# Altium footprint library u4.PcbLib: 1 footprints
Each footprint in its own frame and in the unit in brackets; x right, y up, seen from the top. Pads: shape width x height; smd on the part's side, far side on the other; paste and mask are expansions set on the pad; w line width, h text height; cw(c..) or ccw(c..) is an arc to the next point about the centre after c.
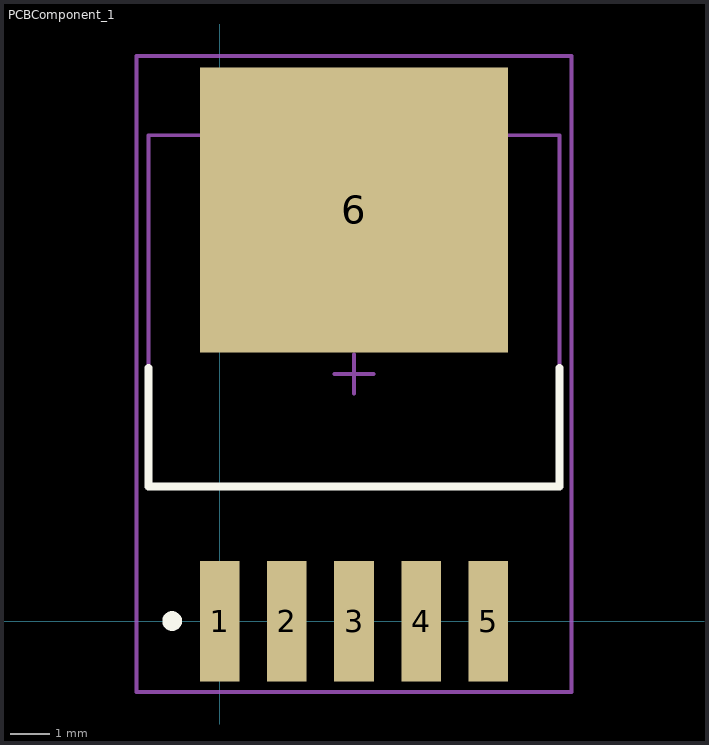
[diagram p0: the footprint, top view; thin cyan lines are the x and y axes]

## PCBComponent_1 [mm]
pads (6):
  rect 1x3.05 smd: 1(0,0) 2(1.7,0) 3(3.4,0) 4(5.1,0) 5(6.8,0)
  rect 7.8x7.2 smd: 6(3.4,10.4)
Top Overlay:
  circle w0.25: c-1.2,0 r0.125
  lines w0.2: -1.8,6.4 -1.8,3.4 8.6,3.4 8.6,6.4
Mechanical 13:
  lines w0.1: -1.8,3.4 8.6,3.4 8.6,12.29 -1.8,12.29 -1.8,3.4
Mechanical 15:
  lines w0.1: 2.9,6.25 3.9,6.25 ; 3.4,5.75 3.4,6.75 ; -2.1,-1.8 8.9,-1.8 8.9,14.3 -2.1,14.3 -2.1,-1.8
3D body: height 4.65, standoff 1.22, extent -1.8,3.4 8.6,12.29